# Altium footprint library 10L_CQFN.PcbLib: 1 footprints
Each footprint in its own frame and in the unit in brackets; x right, y up, seen from the top. Pads: shape width x height; smd on the part's side, far side on the other; paste and mask are expansions set on the pad; w line width, h text height; cw(c..) or ccw(c..) is an arc to the next point about the centre after c.
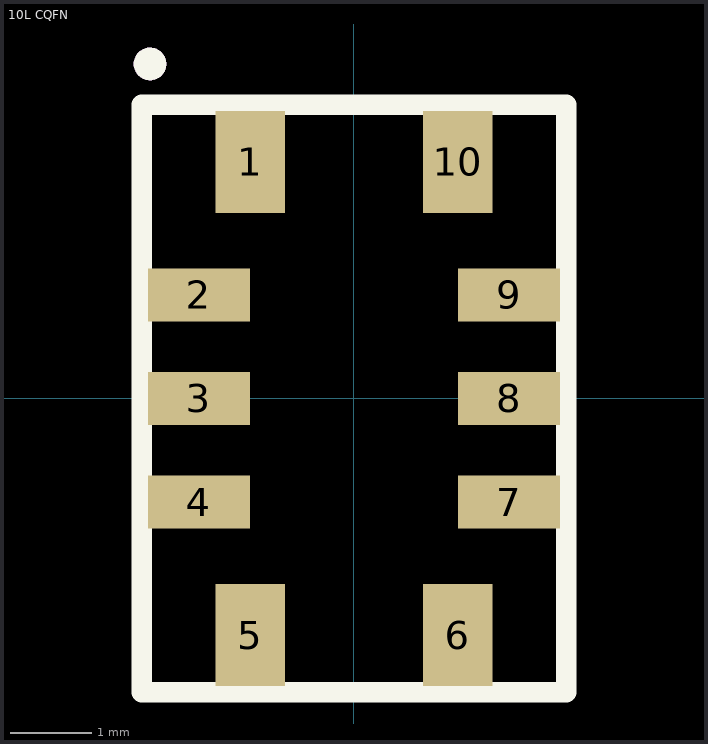
[diagram p0: the footprint, top view; thin cyan lines are the x and y axes]

## 10L CQFN [mm]
height 1.06
pads (10):
  rect 0.85x1.25 smd paste+0 mask+0.102: 1(-1.27,2.9) 5(-1.27,-2.9) 6(1.27,-2.9) 10(1.27,2.9)
  rect 1.25x0.65 smd paste+0 mask+0.102: 2(-1.9,1.27) 3(-1.9,0) 4(-1.9,-1.27) 7(1.9,-1.27) 8(1.9,0) 9(1.9,1.27)
Top Overlay:
  circle w0.2: c-2.5,4.1 r0.1
  lines w0.254: -2.6,-3.6 -2.6,3.6 2.6,3.6 2.6,-3.6 -2.6,-3.6
Mechanical 13:
  circle w0.2: c-2.5,4.1 r0.1
  lines w0.127: -2.6,-3.6 -2.6,3.6 2.6,3.6 2.6,-3.6 -2.6,-3.6
Mechanical 15:
  lines w0.05: -2.6,-3.6 2.6,-3.6 2.6,3.6 -2.6,3.6 -2.6,-3.6
3D body "Ceramic_7050_10pins.stp": height 2.08, standoff 0.03, extent -2.5,-3.5 2.5,3.5